# Altium integrated library 750315038.IntLib: 1 symbol
Pins are listed as number, name and electrical type; pins without a type are passive.

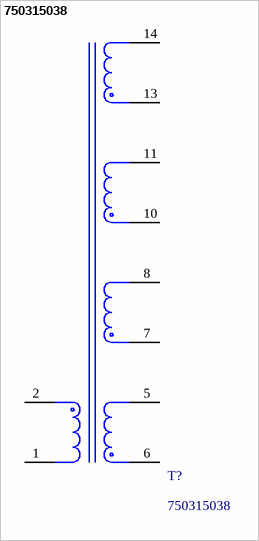
[diagram p0: symbol 750315038]

## 750315038
designator T?
Isolated Buck Converters For For DC/DC Converters SMPS Transformer 3600Vrms Isolation 250 ~ 600kHz Through Hole; MF: Wurth Electronics; Package: None; Availability: In Stock; SnapEDA_Link: https://www.snapeda.com/parts/750315038/Wurth+Electronics+Midcom/view-part/?ref=snap; MP: 750315038; Price: None; Check_prices: https://www.snapeda.com/parts/750315038/Wurth+Electronics+Midcom/view-part/?ref=eda; Purchase-URL: https://pricing.snapeda.com/search/part/750315038/?ref=eda; Value: *
footprint PQ2020_THT_V_10PIN_(6369)
footprint PQ2020_THT_V_10PIN_(6369)
pins: 1 Primary Dot, 2 Secondary Dot, 5 Primary Dot, 6 Secondary Dot, 7 Secondary Dot, 8 Primary Dot, 10 Secondary Dot, 11 Primary Dot, 13 Secondary Dot, 14 Primary Dot